# Altium footprint library XC7Z020CLG400-AD9).PcbLib: 30 footprints (part 1 of 2)
Each footprint in its own frame and in the unit in brackets; x right, y up, seen from the top. Pads: shape width x height; smd on the part's side, far side on the other; paste and mask are expansions set on the pad; w line width, h text height; cw(c..) or ccw(c..) is an arc to the next point about the centre after c.
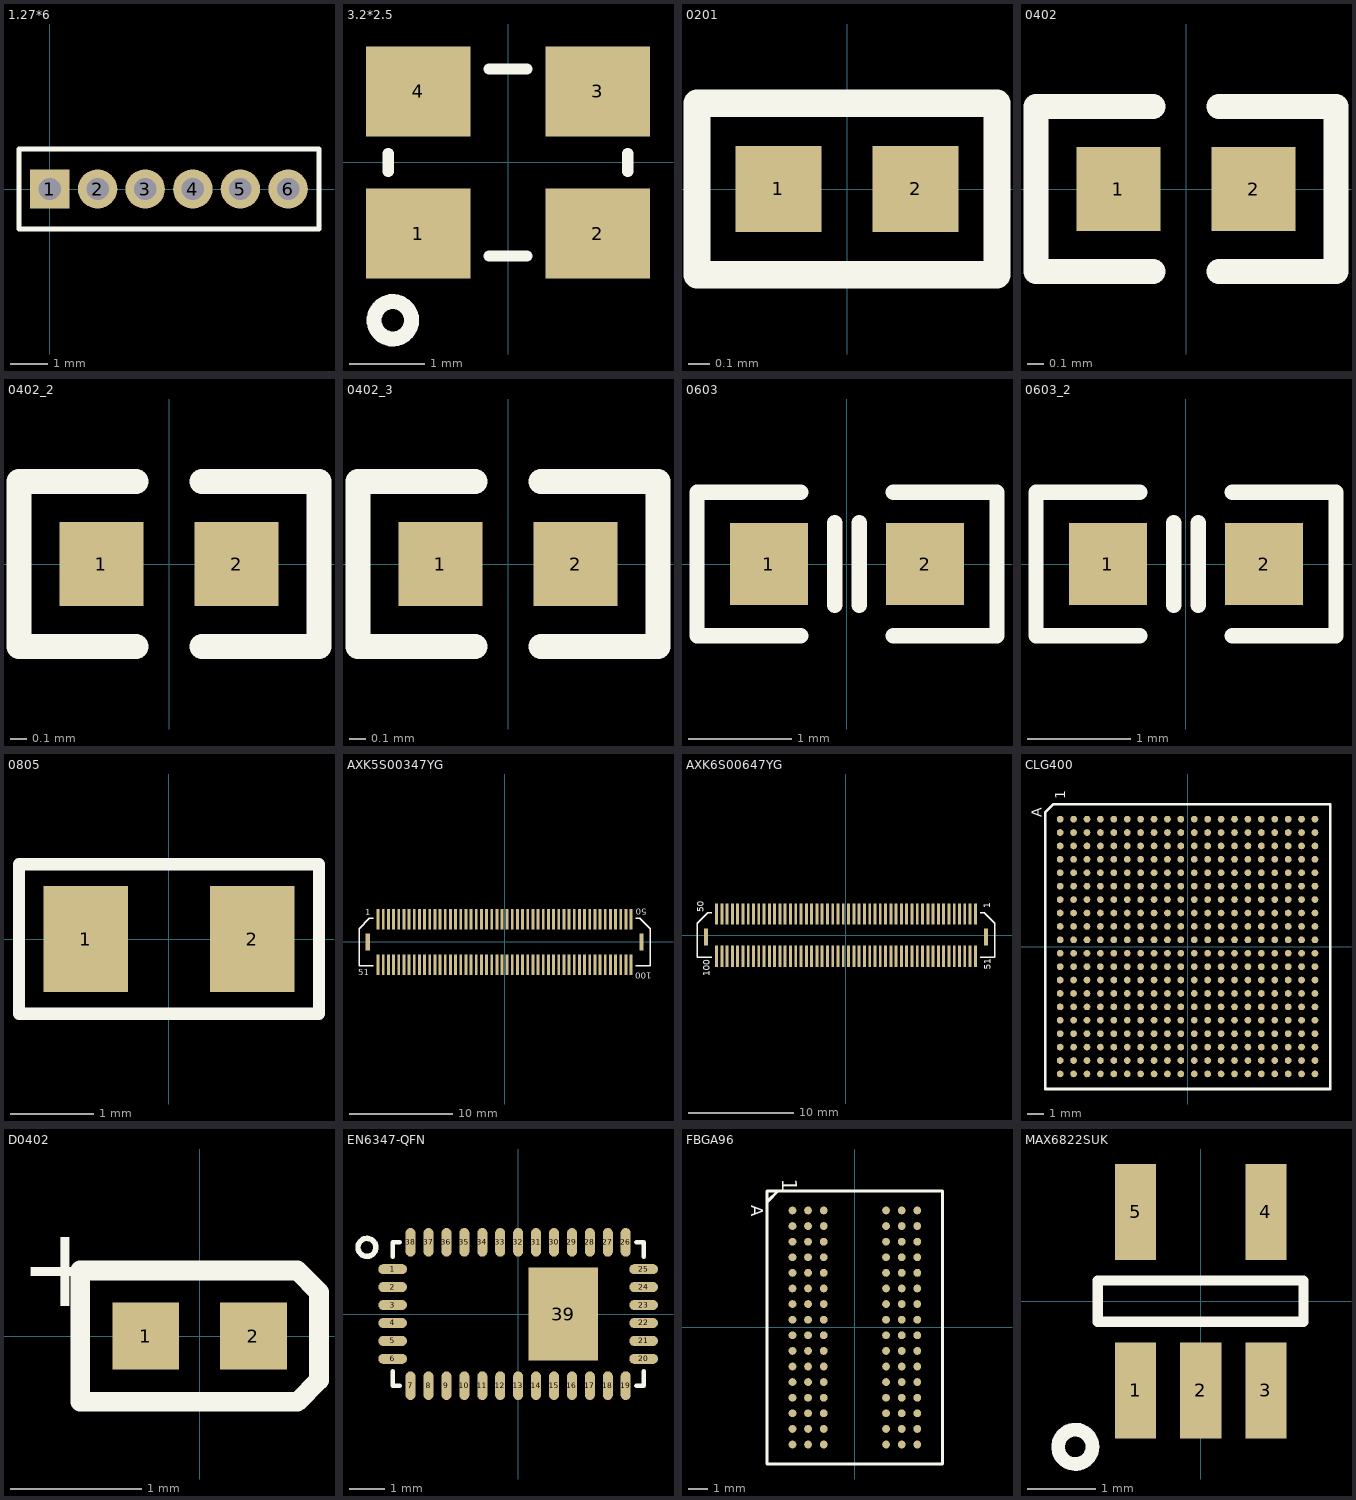
[diagram p0: the footprints below, top view; thin cyan lines are the x and y axes]

## 1.27*6 [mm]
pads (6):
  rect 1.05x1.05 hole 0.6: 1(0,0)
  round 1.05 hole 0.6: 2(1.27,0) 3(2.54,0) 4(3.81,0) 5(5.08,0) 6(6.35,0)
Top Overlay:
  lines w0.127: -0.825,-1.07 7.175,-1.07 7.175,1.07 -0.825,1.07 -0.825,-1.07

## 3.2*2.5 [mm]
pads (4):
  rect 1.4x1.2 smd: 1(-1.2,-0.95) 2(1.2,-0.95) 3(1.2,0.95) 4(-1.2,0.95)
Top Overlay:
  circle w0.2: c-1.538,-2.108 r0.25
  lines w0.15: -1.6,-0.12 -1.6,0.12 ; -0.25,-1.25 0.25,-1.25 ; -0.25,1.25 0.25,1.25 ; 1.6,-0.12 1.6,0.12

## 0201 [mm]
pads (2):
  rect 0.4x0.4 smd: 1(-0.32,0) 2(0.32,0)
Top Overlay:
  lines w0.127: -0.7,-0.4 -0.7,0.4 0.7,0.4 0.7,-0.4 -0.7,-0.4

## 0402 [mm]
height 13
pads (2):
  rect 0.51x0.51 smd: 1(-0.41,0) 2(0.41,0)
Top Overlay:
  lines w0.15: -0.2,-0.5 -0.91,-0.5 -0.91,0.5 -0.2,0.5 ; 0.2,-0.5 0.91,-0.5 0.91,0.5 0.2,0.5

## 0402_2 [mm]
pads (2):
  rect 0.51x0.51 smd: 1(-0.41,0) 2(0.41,0)
Top Overlay:
  lines w0.15: -0.2,-0.5 -0.91,-0.5 -0.91,0.5 -0.2,0.5 ; 0.2,-0.5 0.91,-0.5 0.91,0.5 0.2,0.5

## 0402_3 [mm]
pads (2):
  rect 0.51x0.51 smd: 1(-0.41,0) 2(0.41,0)
Top Overlay:
  lines w0.15: -0.2,-0.5 -0.91,-0.5 -0.91,0.5 -0.2,0.5 ; 0.2,-0.5 0.91,-0.5 0.91,0.5 0.2,0.5

## 0603 [mm]
height 13
pads (2):
  rect 0.76x0.8 smd: 1(-0.76,0) 2(0.76,0)
Top Overlay:
  lines w0.15: -0.45,-0.7 -1.46,-0.7 -1.46,0.7 -0.45,0.7 ; -0.12,-0.4 -0.12,0.4 ; 0.12,-0.4 0.12,0.4 ; 0.45,-0.7 1.46,-0.7 1.46,0.7 0.45,0.7

## 0603_2 [mm]
pads (2):
  rect 0.76x0.8 smd: 1(-0.76,0) 2(0.76,0)
Top Overlay:
  lines w0.15: -0.45,-0.7 -1.46,-0.7 -1.46,0.7 -0.45,0.7 ; -0.12,-0.4 -0.12,0.4 ; 0.12,-0.4 0.12,0.4 ; 0.45,-0.7 1.46,-0.7 1.46,0.7 0.45,0.7

## 0805 [mm]
pads (2):
  rect 1.016x1.27 smd: 1(-1,0) 2(1,0)
Top Overlay:
  lines w0.15: -1.8,-0.9 -1.8,0.9 1.8,0.9 1.8,-0.9 -1.8,-0.9

## AXK5S00347YG [mm]
height 0.9
pads (102):
  rect 0.275x2 smd: 1(-12.25,2.2) 2(-11.75,2.2) 3(-11.25,2.2) 4(-10.75,2.2) 5(-10.25,2.2) 6(-9.75,2.2) 7(-9.25,2.2) 8(-8.75,2.2) 9(-8.25,2.2) 10(-7.75,2.2) 11(-7.25,2.2) 12(-6.75,2.2) 13(-6.25,2.2) 14(-5.75,2.2) 15(-5.25,2.2) 16(-4.75,2.2) 17(-4.25,2.2) 18(-3.75,2.2) 19(-3.25,2.2) 20(-2.75,2.2) 21(-2.25,2.2) 22(-1.75,2.2) 23(-1.25,2.2) 24(-0.75,2.2) 25(-0.25,2.2) 26(0.25,2.2) 27(0.75,2.2) 28(1.25,2.2) 29(1.75,2.2) 30(2.25,2.2) 31(2.75,2.2) 32(3.25,2.2) 33(3.75,2.2) 34(4.25,2.2) 35(4.75,2.2) 36(5.25,2.2) 37(5.75,2.2) 38(6.25,2.2) 39(6.75,2.2) 40(7.25,2.2) 41(7.75,2.2) 42(8.25,2.2) 43(8.75,2.2) 44(9.25,2.2) 45(9.75,2.2) 46(10.25,2.2) 47(10.75,2.2) 48(11.25,2.2) 49(11.75,2.2) 50(12.25,2.2) 51(-12.25,-2.2) 52(-11.75,-2.2) 53(-11.25,-2.2) 54(-10.75,-2.2) 55(-10.25,-2.2) 56(-9.75,-2.2) 57(-9.25,-2.2) 58(-8.75,-2.2) 59(-8.25,-2.2) 60(-7.75,-2.2) 61(-7.25,-2.2) 62(-6.75,-2.2) 63(-6.25,-2.2) 64(-5.75,-2.2) 65(-5.25,-2.2) 66(-4.75,-2.2) 67(-4.25,-2.2) 68(-3.75,-2.2) 69(-3.25,-2.2) 70(-2.75,-2.2) 71(-2.25,-2.2) 72(-1.75,-2.2) 73(-1.25,-2.2) 74(-0.75,-2.2) 75(-0.25,-2.2) 76(0.25,-2.2) 77(0.75,-2.2) 78(1.25,-2.2) 79(1.75,-2.2) 80(2.25,-2.2) 81(2.75,-2.2) 82(3.25,-2.2) 83(3.75,-2.2) 84(4.25,-2.2) 85(4.75,-2.2) 86(5.25,-2.2) 87(5.75,-2.2) 88(6.25,-2.2) 89(6.75,-2.2) 90(7.25,-2.2) 91(7.75,-2.2) 92(8.25,-2.2) 93(8.75,-2.2) 94(9.25,-2.2) 95(9.75,-2.2) 96(10.25,-2.2) 97(10.75,-2.2) 98(11.25,-2.2) 99(11.75,-2.2) 100(12.25,-2.2)
  rect 0.4x1.6 smd: ""(-13.25,0) ""(13.25,0)
Top Overlay:
  lines w0.127: -12.7,-2.3 -14.1,-2.3 -14.1,1.3 -13.1,2.3 -12.7,2.3 ; 12.7,-2.3 14.1,-2.3 14.1,1.3 13.1,2.3 12.7,2.3
  text "1" at -13.5,2.6 h0.61
  text "51" at -14.198,-3.241 h0.61
  text "50" at 13.793,3.211 h0.61
  text "100" at 14.25,-2.961 h0.61

## AXK6S00647YG [mm]
height 0.9
pads (102):
  rect 0.275x2 smd: 1(12.25,2) 2(11.75,2) 3(11.25,2) 4(10.75,2) 5(10.25,2) 6(9.75,2) 7(9.25,2) 8(8.75,2) 9(8.25,2) 10(7.75,2) 11(7.25,2) 12(6.75,2) 13(6.25,2) 14(5.75,2) 15(5.25,2) 16(4.75,2) 17(4.25,2) 18(3.75,2) 19(3.25,2) 20(2.75,2) 21(2.25,2) 22(1.75,2) 23(1.25,2) 24(0.75,2) 25(0.25,2) 26(-0.25,2) 27(-0.75,2) 28(-1.25,2) 29(-1.75,2) 30(-2.25,2) 31(-2.75,2) 32(-3.25,2) 33(-3.75,2) 34(-4.25,2) 35(-4.75,2) 36(-5.25,2) 37(-5.75,2) 38(-6.25,2) 39(-6.75,2) 40(-7.25,2) 41(-7.75,2) 42(-8.25,2) 43(-8.75,2) 44(-9.25,2) 45(-9.75,2) 46(-10.25,2) 47(-10.75,2) 48(-11.25,2) 49(-11.75,2) 50(-12.25,2) 51(12.25,-2) 52(11.75,-2) 53(11.25,-2) 54(10.75,-2) 55(10.25,-2) 56(9.75,-2) 57(9.25,-2) 58(8.75,-2) 59(8.25,-2) 60(7.75,-2) 61(7.25,-2) 62(6.75,-2) 63(6.25,-2) 64(5.75,-2) 65(5.25,-2) 66(4.75,-2) 67(4.25,-2) 68(3.75,-2) 69(3.25,-2) 70(2.75,-2) 71(2.25,-2) 72(1.75,-2) 73(1.25,-2) 74(0.75,-2) 75(0.25,-2) 76(-0.25,-2) 77(-0.75,-2) 78(-1.25,-2) 79(-1.75,-2) 80(-2.25,-2) 81(-2.75,-2) 82(-3.25,-2) 83(-3.75,-2) 84(-4.25,-2) 85(-4.75,-2) 86(-5.25,-2) 87(-5.75,-2) 88(-6.25,-2) 89(-6.75,-2) 90(-7.25,-2) 91(-7.75,-2) 92(-8.25,-2) 93(-8.75,-2) 94(-9.25,-2) 95(-9.75,-2) 96(-10.25,-2) 97(-10.75,-2) 98(-11.25,-2) 99(-11.75,-2) 100(-12.25,-2)
  rect 0.4x1.6 smd: ""(-13.25,-0.2) ""(13.25,-0.2)
Top Overlay:
  lines w0.127: -12.7,-2.1 -14.1,-2.1 -14.1,1.1 -13.1,2.1 -12.7,2.1 ; 12.7,-2.1 14.1,-2.1 14.1,1.1 13.1,2.1 12.7,2.1
  text "100" at -12.877,-3.903 h0.61
  text "50" at -13.461,2.168 h0.61
  text "51" at 13.692,-3.268 h0.61
  text "1" at 13.641,2.549 h0.61

## CLG400 [mm]
height 0.9
pads (400):
  round 0.4 smd: A1(-7.6,7.6) A2(-6.8,7.6) A3(-6,7.6) A4(-5.2,7.6) A5(-4.4,7.6) A6(-3.6,7.6) A7(-2.8,7.6) A8(-2,7.6) A9(-1.2,7.6) A10(-0.4,7.6) A11(0.4,7.6) A12(1.2,7.6) A13(2,7.6) A14(2.8,7.6) A15(3.6,7.6) A16(4.4,7.6) A17(5.2,7.6) A18(6,7.6) A19(6.8,7.6) A20(7.6,7.6) B1(-7.6,6.8) B2(-6.8,6.8) B3(-6,6.8) B4(-5.2,6.8) B5(-4.4,6.8) B6(-3.6,6.8) B7(-2.8,6.8) B8(-2,6.8) B9(-1.2,6.8) B10(-0.4,6.8) B11(0.4,6.8) B12(1.2,6.8) B13(2,6.8) B14(2.8,6.8) B15(3.6,6.8) B16(4.4,6.8) B17(5.2,6.8) B18(6,6.8) B19(6.8,6.8) B20(7.6,6.8) C1(-7.6,6) C2(-6.8,6) C3(-6,6) C4(-5.2,6) C5(-4.4,6) C6(-3.6,6) C7(-2.8,6) C8(-2,6) C9(-1.2,6) C10(-0.4,6) C11(0.4,6) C12(1.2,6) C13(2,6) C14(2.8,6) C15(3.6,6) C16(4.4,6) C17(5.2,6) C18(6,6) C19(6.8,6) C20(7.6,6) D1(-7.6,5.2) D2(-6.8,5.2) D3(-6,5.2) D4(-5.2,5.2) D5(-4.4,5.2) D6(-3.6,5.2) D7(-2.8,5.2) D8(-2,5.2) D9(-1.2,5.2) D10(-0.4,5.2) D11(0.4,5.2) D12(1.2,5.2) D13(2,5.2) D14(2.8,5.2) D15(3.6,5.2) D16(4.4,5.2) D17(5.2,5.2) D18(6,5.2) D19(6.8,5.2) D20(7.6,5.2) E1(-7.6,4.4) E2(-6.8,4.4) E3(-6,4.4) E4(-5.2,4.4) E5(-4.4,4.4) E6(-3.6,4.4) E7(-2.8,4.4) E8(-2,4.4) E9(-1.2,4.4) E10(-0.4,4.4) E11(0.4,4.4) E12(1.2,4.4) E13(2,4.4) E14(2.8,4.4) E15(3.6,4.4) E16(4.4,4.4) E17(5.2,4.4) E18(6,4.4) E19(6.8,4.4) E20(7.6,4.4) F1(-7.6,3.6) F2(-6.8,3.6) F3(-6,3.6) F4(-5.2,3.6) F5(-4.4,3.6) F6(-3.6,3.6) F7(-2.8,3.6) F8(-2,3.6) F9(-1.2,3.6) F10(-0.4,3.6) F11(0.4,3.6) F12(1.2,3.6) F13(2,3.6) F14(2.8,3.6) F15(3.6,3.6) F16(4.4,3.6) F17(5.2,3.6) F18(6,3.6) F19(6.8,3.6) F20(7.6,3.6) G1(-7.6,2.8) G2(-6.8,2.8) G3(-6,2.8) G4(-5.2,2.8) G5(-4.4,2.8) G6(-3.6,2.8) G7(-2.8,2.8) G8(-2,2.8) G9(-1.2,2.8) G10(-0.4,2.8) G11(0.4,2.8) G12(1.2,2.8) G13(2,2.8) G14(2.8,2.8) G15(3.6,2.8) G16(4.4,2.8) G17(5.2,2.8) G18(6,2.8) G19(6.8,2.8) G20(7.6,2.8) H1(-7.6,2) H2(-6.8,2) H3(-6,2) H4(-5.2,2) H5(-4.4,2) H6(-3.6,2) H7(-2.8,2) H8(-2,2) H9(-1.2,2) H10(-0.4,2) H11(0.4,2) H12(1.2,2) H13(2,2) H14(2.8,2) H15(3.6,2) H16(4.4,2) H17(5.2,2) H18(6,2) H19(6.8,2) H20(7.6,2) J1(-7.6,1.2) J2(-6.8,1.2) J3(-6,1.2) J4(-5.2,1.2) J5(-4.4,1.2) J6(-3.6,1.2) J7(-2.8,1.2) J8(-2,1.2) J9(-1.2,1.2) J10(-0.4,1.2) J11(0.4,1.2) J12(1.2,1.2) J13(2,1.2) J14(2.8,1.2) J15(3.6,1.2) J16(4.4,1.2) J17(5.2,1.2) J18(6,1.2) J19(6.8,1.2) J20(7.6,1.2) K1(-7.6,0.4) K2(-6.8,0.4) K3(-6,0.4) K4(-5.2,0.4) K5(-4.4,0.4) K6(-3.6,0.4) K7(-2.8,0.4) K8(-2,0.4) K9(-1.2,0.4) K10(-0.4,0.4) K11(0.4,0.4) K12(1.2,0.4) K13(2,0.4) K14(2.8,0.4) K15(3.6,0.4) K16(4.4,0.4) K17(5.2,0.4) K18(6,0.4) K19(6.8,0.4) K20(7.6,0.4) L1(-7.6,-0.4) L2(-6.8,-0.4) L3(-6,-0.4) L4(-5.2,-0.4) L5(-4.4,-0.4) L6(-3.6,-0.4) L7(-2.8,-0.4) L8(-2,-0.4) L9(-1.2,-0.4) L10(-0.4,-0.4) L11(0.4,-0.4) L12(1.2,-0.4) L13(2,-0.4) L14(2.8,-0.4) L15(3.6,-0.4) L16(4.4,-0.4) L17(5.2,-0.4) L18(6,-0.4) L19(6.8,-0.4) L20(7.6,-0.4) M1(-7.6,-1.2) M2(-6.8,-1.2) M3(-6,-1.2) M4(-5.2,-1.2) M5(-4.4,-1.2) M6(-3.6,-1.2) M7(-2.8,-1.2) M8(-2,-1.2) M9(-1.2,-1.2) M10(-0.4,-1.2) M11(0.4,-1.2) M12(1.2,-1.2) M13(2,-1.2) M14(2.8,-1.2) M15(3.6,-1.2) M16(4.4,-1.2) M17(5.2,-1.2) M18(6,-1.2) M19(6.8,-1.2) M20(7.6,-1.2) N1(-7.6,-2) N2(-6.8,-2) N3(-6,-2) N4(-5.2,-2) N5(-4.4,-2) N6(-3.6,-2) N7(-2.8,-2) N8(-2,-2) N9(-1.2,-2) N10(-0.4,-2) N11(0.4,-2) N12(1.2,-2) N13(2,-2) N14(2.8,-2) N15(3.6,-2) N16(4.4,-2) N17(5.2,-2) N18(6,-2) N19(6.8,-2) N20(7.6,-2) P1(-7.6,-2.8) P2(-6.8,-2.8) P3(-6,-2.8) P4(-5.2,-2.8) P5(-4.4,-2.8) P6(-3.6,-2.8) P7(-2.8,-2.8) P8(-2,-2.8) P9(-1.2,-2.8) P10(-0.4,-2.8) P11(0.4,-2.8) P12(1.2,-2.8) P13(2,-2.8) P14(2.8,-2.8) P15(3.6,-2.8) P16(4.4,-2.8) P17(5.2,-2.8) P18(6,-2.8) P19(6.8,-2.8) P20(7.6,-2.8) R1(-7.6,-3.6) R2(-6.8,-3.6) R3(-6,-3.6) R4(-5.2,-3.6) R5(-4.4,-3.6) R6(-3.6,-3.6) R7(-2.8,-3.6) R8(-2,-3.6) R9(-1.2,-3.6) R10(-0.4,-3.6) R11(0.4,-3.6) R12(1.2,-3.6) R13(2,-3.6) R14(2.8,-3.6) R15(3.6,-3.6) R16(4.4,-3.6) R17(5.2,-3.6) R18(6,-3.6) R19(6.8,-3.6) R20(7.6,-3.6) T1(-7.6,-4.4) T2(-6.8,-4.4) T3(-6,-4.4) T4(-5.2,-4.4) T5(-4.4,-4.4) T6(-3.6,-4.4) T7(-2.8,-4.4) T8(-2,-4.4) T9(-1.2,-4.4) T10(-0.4,-4.4) T11(0.4,-4.4) T12(1.2,-4.4) T13(2,-4.4) T14(2.8,-4.4) T15(3.6,-4.4) T16(4.4,-4.4) T17(5.2,-4.4) T18(6,-4.4) T19(6.8,-4.4) T20(7.6,-4.4) U1(-7.6,-5.2) U2(-6.8,-5.2) U3(-6,-5.2) U4(-5.2,-5.2) U5(-4.4,-5.2) U6(-3.6,-5.2) U7(-2.8,-5.2) U8(-2,-5.2) U9(-1.2,-5.2) U10(-0.4,-5.2) U11(0.4,-5.2) U12(1.2,-5.2) U13(2,-5.2) U14(2.8,-5.2) U15(3.6,-5.2) U16(4.4,-5.2) U17(5.2,-5.2) U18(6,-5.2) U19(6.8,-5.2) U20(7.6,-5.2) V1(-7.6,-6) V2(-6.8,-6) V3(-6,-6) V4(-5.2,-6) V5(-4.4,-6) V6(-3.6,-6) V7(-2.8,-6) V8(-2,-6) V9(-1.2,-6) V10(-0.4,-6) V11(0.4,-6) V12(1.2,-6) V13(2,-6) V14(2.8,-6) V15(3.6,-6) V16(4.4,-6) V17(5.2,-6) V18(6,-6) V19(6.8,-6) V20(7.6,-6) W1(-7.6,-6.8) W2(-6.8,-6.8) W3(-6,-6.8) W4(-5.2,-6.8) W5(-4.4,-6.8) W6(-3.6,-6.8) W7(-2.8,-6.8) W8(-2,-6.8) W9(-1.2,-6.8) W10(-0.4,-6.8) W11(0.4,-6.8) W12(1.2,-6.8) W13(2,-6.8) W14(2.8,-6.8) W15(3.6,-6.8) W16(4.4,-6.8) W17(5.2,-6.8) W18(6,-6.8) W19(6.8,-6.8) W20(7.6,-6.8) Y1(-7.6,-7.6) Y2(-6.8,-7.6) Y3(-6,-7.6) Y4(-5.2,-7.6) Y5(-4.4,-7.6) Y6(-3.6,-7.6) Y7(-2.8,-7.6) Y8(-2,-7.6) Y9(-1.2,-7.6) Y10(-0.4,-7.6) Y11(0.4,-7.6) Y12(1.2,-7.6) Y13(2,-7.6) Y14(2.8,-7.6) Y15(3.6,-7.6) Y16(4.4,-7.6) Y17(5.2,-7.6) Y18(6,-7.6) Y19(6.8,-7.6) Y20(7.6,-7.6)
Top Overlay:
  lines w0.15: -8.5,-8.5 -8.5,8 -8,8.5 8.5,8.5 8.5,-8.5 -8.5,-8.5
  text "1" at -7.29,8.788 h0.61
  text "A" at -8.687,7.722 h0.61

## D0402 [mm]
height 13
pads (2):
  rect 0.51x0.51 smd: 1(-0.41,0) 2(0.41,0)
Top Overlay:
  lines w0.15: -0.91,-0.5 -0.91,0.5 0.745,0.5 0.91,0.335 0.91,-0.335 0.745,-0.5 -0.91,-0.5
  text "+" at -1.376,0.229 h0.61

## EN6347-QFN [mm]
height 0.9
pads (39):
  oval 0.8x0.28 smd: 1(-3.5,1.25) 2(-3.5,0.75) 3(-3.5,0.25) 4(-3.5,-0.25) 5(-3.5,-0.75) 6(-3.5,-1.25) 20(3.5,-1.25) 21(3.5,-0.75) 22(3.5,-0.25) 23(3.5,0.25) 24(3.5,0.75) 25(3.5,1.25)
  oval 0.28x0.8 smd: 7(-3,-2) 8(-2.5,-2) 9(-2,-2) 10(-1.5,-2) 11(-1,-2) 12(-0.5,-2) 13(0,-2) 14(0.5,-2) 15(1,-2) 16(1.5,-2) 17(2,-2) 18(2.5,-2) 19(3,-2) 26(3,2) 27(2.5,2) 28(2,2) 29(1.5,2) 30(1,2) 31(0.5,2) 32(0,2) 33(-0.5,2) 34(-1,2) 35(-1.5,2) 36(-2,2) 37(-2.5,2) 38(-3,2)
  rect 1.94x2.6 smd: 39(1.255,0)
Top Overlay:
  circle w0.15: c-4.216,1.858 r0.25
  lines w0.127: -3.5,-1.6 -3.5,-2 -3.3,-2 ; -3.5,1.6 -3.5,2 -3.3,2 ; 3.3,-2 3.5,-2 3.5,-1.6 ; 3.3,2 3.5,2 3.5,1.6

## FBGA96 [mm]
height 1.05
pads (96):
  round 0.4 smd: A1(-3.2,6) A2(-2.4,6) A3(-1.6,6) A7(1.6,6) A8(2.4,6) A9(3.2,6) B1(-3.2,5.2) B2(-2.4,5.2) B3(-1.6,5.2) B7(1.6,5.2) B8(2.4,5.2) B9(3.2,5.2) C1(-3.2,4.4) C2(-2.4,4.4) C3(-1.6,4.4) C7(1.6,4.4) C8(2.4,4.4) C9(3.2,4.4) D1(-3.2,3.6) D2(-2.4,3.6) D3(-1.6,3.6) D7(1.6,3.6) D8(2.4,3.6) D9(3.2,3.6) E1(-3.2,2.8) E2(-2.4,2.8) E3(-1.6,2.8) E7(1.6,2.8) E8(2.4,2.8) E9(3.2,2.8) F1(-3.2,2) F2(-2.4,2) F3(-1.6,2) F7(1.6,2) F8(2.4,2) F9(3.2,2) G1(-3.2,1.2) G2(-2.4,1.2) G3(-1.6,1.2) G7(1.6,1.2) G8(2.4,1.2) G9(3.2,1.2) H1(-3.2,0.4) H2(-2.4,0.4) H3(-1.6,0.4) H7(1.6,0.4) H8(2.4,0.4) H9(3.2,0.4) J1(-3.2,-0.4) J2(-2.4,-0.4) J3(-1.6,-0.4) J7(1.6,-0.4) J8(2.4,-0.4) J9(3.2,-0.4) K1(-3.2,-1.2) K2(-2.4,-1.2) K3(-1.6,-1.2) K7(1.6,-1.2) K8(2.4,-1.2) K9(3.2,-1.2) L1(-3.2,-2) L2(-2.4,-2) L3(-1.6,-2) L7(1.6,-2) L8(2.4,-2) L9(3.2,-2) M1(-3.2,-2.8) M2(-2.4,-2.8) M3(-1.6,-2.8) M7(1.6,-2.8) M8(2.4,-2.8) M9(3.2,-2.8) N1(-3.2,-3.6) N2(-2.4,-3.6) N3(-1.6,-3.6) N7(1.6,-3.6) N8(2.4,-3.6) N9(3.2,-3.6) P1(-3.2,-4.4) P2(-2.4,-4.4) P3(-1.6,-4.4) P7(1.6,-4.4) P8(2.4,-4.4) P9(3.2,-4.4) R1(-3.2,-5.2) R2(-2.4,-5.2) R3(-1.6,-5.2) R7(1.6,-5.2) R8(2.4,-5.2) R9(3.2,-5.2) T1(-3.2,-6) T2(-2.4,-6) T3(-1.6,-6) T7(1.6,-6) T8(2.4,-6) T9(3.2,-6)
Top Overlay:
  lines w0.152: -4.462,6.475 -3.937,7 ; -4.5,-7 4.5,-7 4.5,7 -4.5,7 -4.5,-7
  text "A" at -5.309,6.274 h0.61
  text "1" at -3.734,7.62 h0.76

## MAX6822SUK [mm]
height 13
pads (5):
  rect 0.6x1.4 smd: 1(-0.95,-1.3) 2(0,-1.3) 3(0.95,-1.3) 4(0.95,1.3) 5(-0.95,1.3)
Top Overlay:
  circle w0.2: c-1.829,-2.125 r0.25
  lines w0.15: -1.5,-0.3 1.5,-0.3 1.5,0.3 -1.5,0.3 -1.5,-0.3